# EAGLE library part DIL28 (library ME433)
Dual In Line
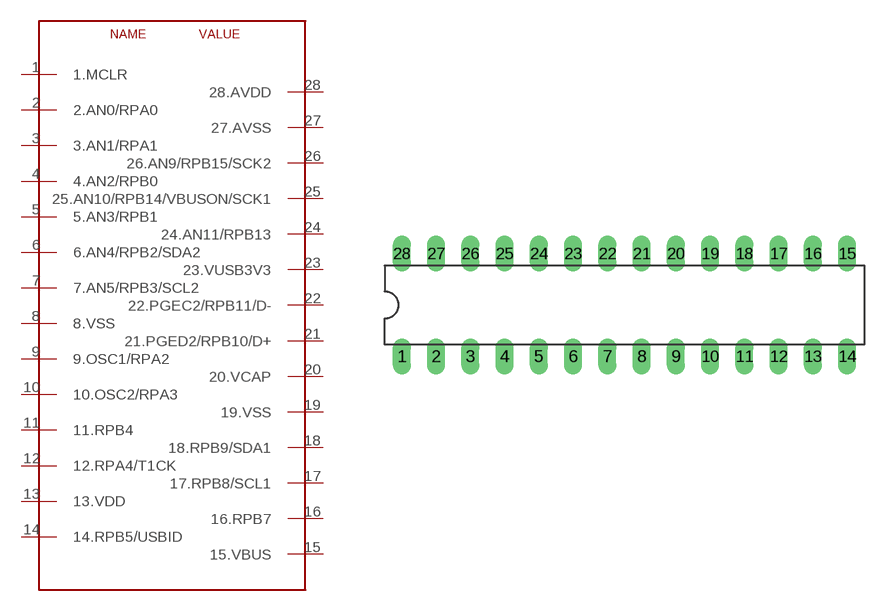
[diagram p19: symbol with the pads of DIL28-3; footprint DIL28-3]

Designator prefix IC

## DIL28-3  [DIL28-3]
1  1.MCLR
2  2.AN0/RPA0
3  3.AN1/RPA1
4  4.AN2/RPB0
5  5.AN3/RPB1
6  6.AN4/RPB2/SDA2
7  7.AN5/RPB3/SCL2
8  8.VSS
9  9.OSC1/RPA2
10  10.OSC2/RPA3
11  11.RPB4
12  12.RPA4/T1CK
13  13.VDD
14  14.RPB5/USBID
15  15.VBUS
16  16.RPB7
17  17.RPB8/SCL1
18  18.RPB9/SDA1
19  19.VSS
20  20.VCAP
21  21.PGED2/RPB10/D+
22  22.PGEC2/RPB11/D-
23  23.VUSB3V3
24  24.AN11/RPB13
25  25.AN10/RPB14/VBUSON/SCK1
26  26.AN9/RPB15/SCK2
27  27.AVSS
28  28.AVDD

## Footprint DIL28-3 (pad centres in mm)
Dual In Line Package Small
drill 0.813 long: 1 -16.51,-3.81; 2 -13.97,-3.81; 3 -11.43,-3.81; 4 -8.89,-3.81; 5 -6.35,-3.81; 6 -3.81,-3.81; 7 -1.27,-3.81; 8 1.27,-3.81; 9 3.81,-3.81; 10 6.35,-3.81; 11 8.89,-3.81; 12 11.43,-3.81; 13 13.97,-3.81; 14 16.51,-3.81; 15 16.51,3.81; 16 13.97,3.81; 17 11.43,3.81; 18 8.89,3.81; 19 6.35,3.81; 20 3.81,3.81; 21 1.27,3.81; 22 -1.27,3.81; 23 -3.81,3.81; 24 -6.35,3.81; 25 -8.89,3.81; 26 -11.43,3.81; 27 -13.97,3.81; 28 -16.51,3.81